# EAGLE library part LM22676MRE-5.0_NOPB (library SamacSys_Parts)
Texas Instruments LM22676MRE-5.0/NOPB, Step Down DC-DC Converter, 3A, 8-Pin PSOP Source: Datasheet <http://www.ti.com/lit/ds/symlink/lm22676.pdf>
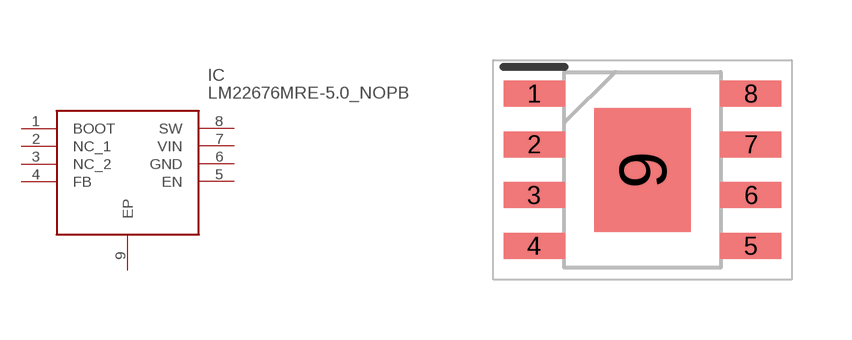
[diagram p15: symbol with the pads of SOIC127P600X170-9N; footprint SOIC127P600X170-9N]

Designator prefix IC

## LM22676MRE-5.0_NOPB (DESCRIPTION: Texas Instruments LM22676MRE-5.0/NOPB, Step Down DC-DC Converter, 3A, 8-Pin PSOP; HEIGHT: 1.7mm; MANUFACTURER_NAME: Texas Instruments; MANUFACTURER_PART_NUMBER: LM22676MRE-5.0/NOPB; MOUSER_PART_NUMBER: 926-LM22676MRE50NOPB; MOUSER_PRICE-STOCK: https://www.mouser.com/Search/Refine.aspx?Keyword=926-LM22676MRE50NOPB)  [SOIC127P600X170-9N]
1  BOOT
2  NC_1
3  NC_2
4  FB
5  EN
6  GND  pwr
7  VIN  in
8  SW
9  EP  pwr

## Footprint SOIC127P600X170-9N (pad centres in mm)
DDA (R-PDSO-G8)
smd 1.525 x 0.65: 1 -2.712,1.905; 2 -2.712,0.635; 3 -2.712,-0.635; 4 -2.712,-1.905; 5 2.712,-1.905; 6 2.712,-0.635; 7 2.712,0.635; 8 2.712,1.905
smd 2.4 x 3.1: 9 0,0